# EAGLE library part LTC3261-MSOP12 (library Power Board Components)
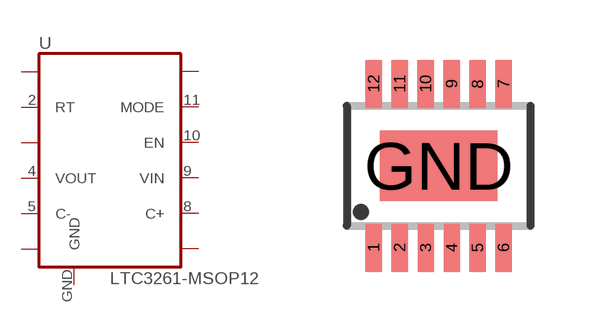
[diagram p5: symbol with the pads of MSOP12; footprint MSOP12]

Designator prefix -

## LTC3261-MSOP12  [MSOP12]
1  NC1  nc
2  RT  in
3  NC2  nc
4  VOUT  out
5  C-
6  NC3  nc
7  NC4  nc
8  C+
9  VIN  pwr
10  EN  in
11  MODE  in
12  NC5  nc
GND  GND  pwr

## Footprint MSOP12 (pad centres in mm)
smd 0.42 x 1.2: 1 -1.625,-2.05; 2 -0.975,-2.05; 5 0.975,-2.05; 6 1.625,-2.05; 7 1.625,2.05; 8 0.975,2.05; 9 0.325,2.05; 10 -0.325,2.05; 11 -0.975,2.05; 12 -1.625,2.05
smd 0.4 x 1.2: 3 -0.325,-2.05; 4 0.325,-2.05
smd 2.947 x 1.753: GND 0,0